# Altium footprint library SOT.PcbLib: 163 footprints (part 2 of 11)
Each footprint in its own frame and in the unit in brackets; x right, y up, seen from the top. Pads: shape width x height; smd on the part's side, far side on the other; paste and mask are expansions set on the pad; w line width, h text height; cw(c..) or ccw(c..) is an arc to the next point about the centre after c.
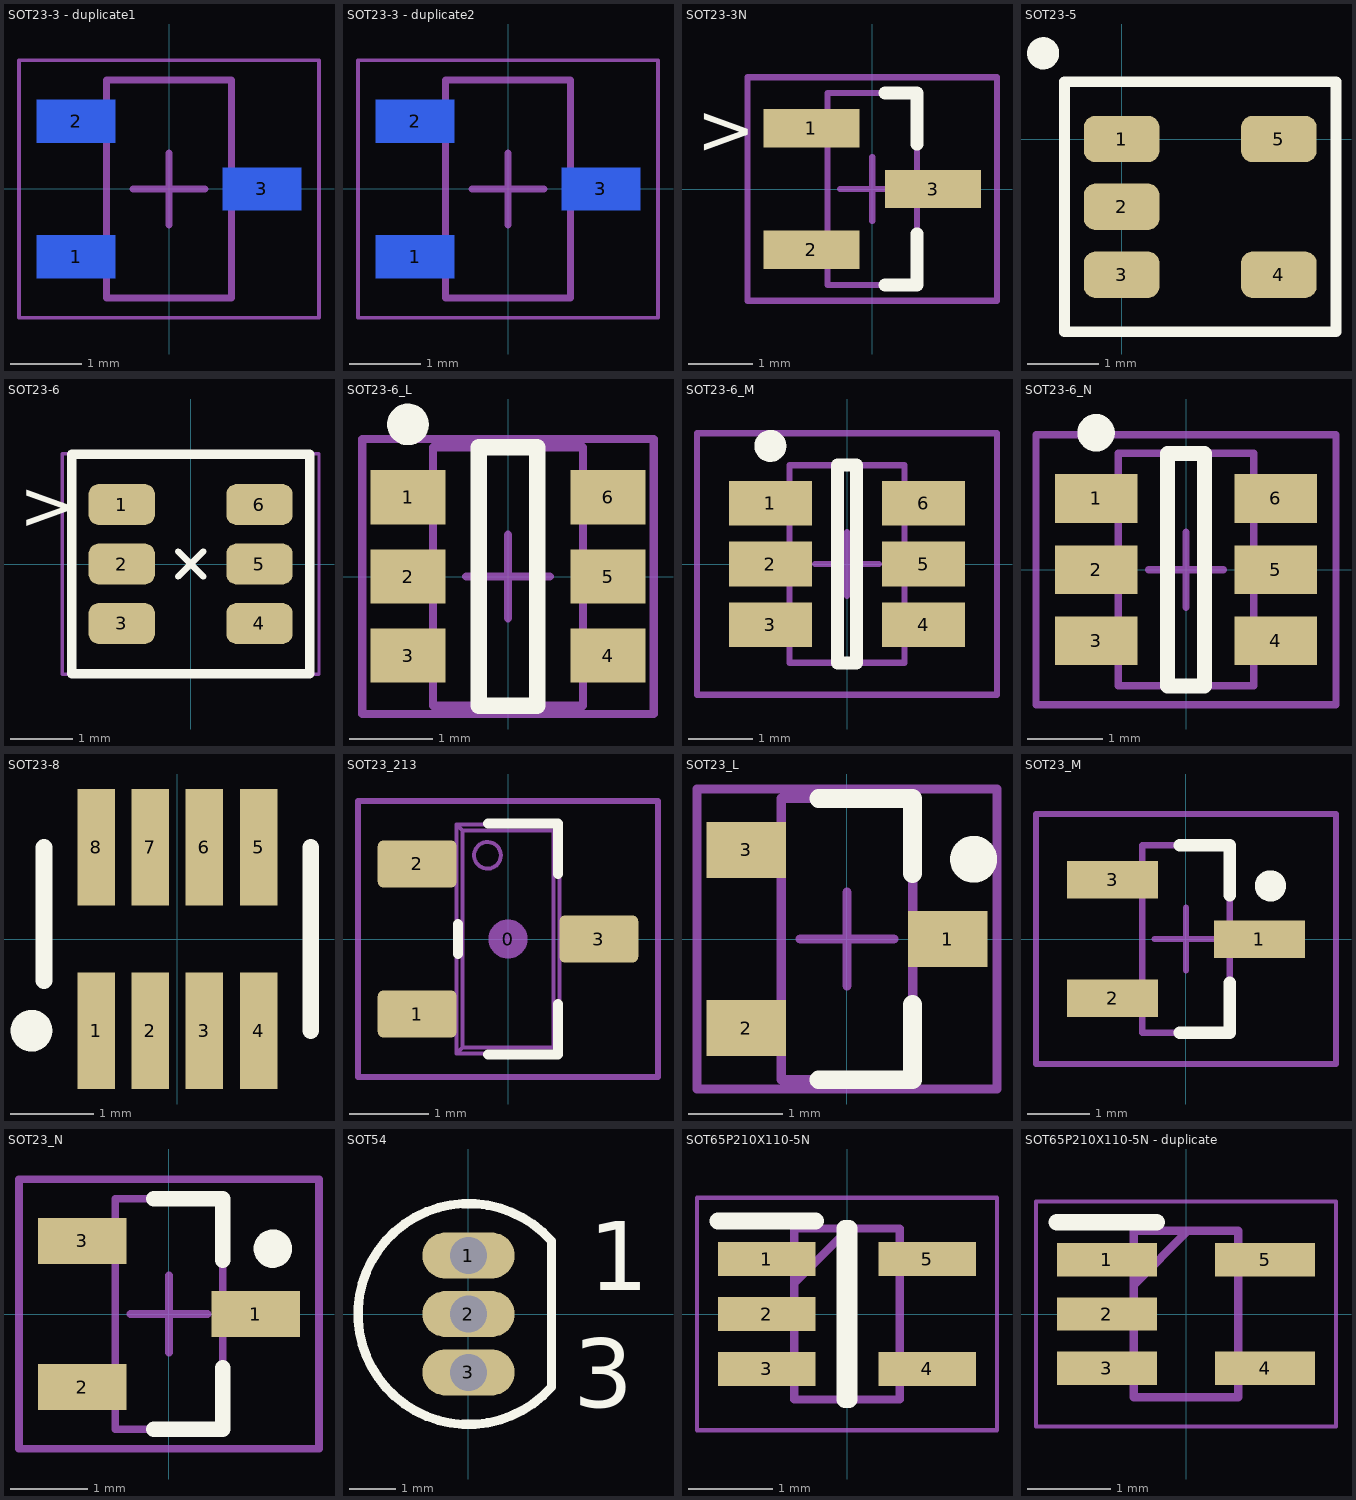
[diagram p1: the footprints below, top view; thin cyan lines are the x and y axes]

## SOT23-3 - duplicate1 [mm] "SOT95P280X145-3N"
height 1.45
pads (3):
  rect 1.1x0.6 smd far side: 1(-1.3,-0.95) 2(-1.3,0.95) 3(1.3,0)
Bottom Overlay:
  lines w0.2: -0.5,-1.55 -0.5,1.55 0.5,1.55 0.5,-1.55 -0.5,-1.55
  text ">" at -2.6,-0.55 h0.8
Mechanical 14:
  lines w0.1: -0.875,-1.525 0.875,-1.525 0.875,1.525 -0.875,1.525 -0.875,-1.525
Mechanical 16:
  lines w0.05: -2.1,-1.8 2.1,-1.8 2.1,1.8 -2.1,1.8 -2.1,-1.8
  lines w0.1: -0.5,0 0.5,0 ; 0,-0.5 0,0.5
3D body "SOT23-3.step": height 1.45, standoff 0, extent -1.5,-1.525 1.5,1.525

## SOT23-3 - duplicate2 [mm] "SOT95P280X145-3N"
height 1.45
pads (3):
  rect 1.1x0.6 smd far side: 1(-1.3,-0.95) 2(-1.3,0.95) 3(1.3,0)
Bottom Overlay:
  lines w0.2: -0.5,-1.55 -0.5,1.55 0.5,1.55 0.5,-1.55 -0.5,-1.55
  text ">" at -2.6,-0.55 h0.8
Mechanical 14:
  lines w0.1: -0.875,-1.525 0.875,-1.525 0.875,1.525 -0.875,1.525 -0.875,-1.525
Mechanical 16:
  lines w0.05: -2.1,-1.8 2.1,-1.8 2.1,1.8 -2.1,1.8 -2.1,-1.8
  lines w0.1: -0.5,0 0.5,0 ; 0,-0.5 0,0.5
3D body "SOT23-3.step": height 1.45, standoff 0, extent -1.5,-1.525 1.5,1.525

## SOT23-3N [mm] "SOT23, 3-Leads, Body 2.9x1.3mm, Pitch 0.95mm, Lead Span 2.5mm, IPC Medium Density"
height 1.1
pads (3):
  rect 1.5x0.6 smd: 1(-0.95,0.95) 2(-0.95,-0.95) 3(0.95,0)
Top Overlay:
  lines w0.2: 0.2,-1.5 0.7,-1.5 0.7,-0.7 ; 0.2,1.5 0.7,1.5 0.7,0.7
  text ">" at -2.74,0.55 h0.8
Mechanical 13:
  lines w0.1: -0.7,-1.5 0.7,-1.5 0.7,1.5 -0.7,1.5 -0.7,-1.5
Mechanical 15:
  lines w0.1: -0.5,0 0.5,0 ; 0,-0.5 0,0.5 ; -1.95,-1.75 1.95,-1.75 1.95,1.75 -1.95,1.75 -1.95,-1.75
3D body "SW3dPS-SOT23.STEP": height 1, standoff -0.1, extent -1.569,-1.5 1.569,1.5

## SOT23-5 [mm]
height 3
pads (5):
  rrect50% 1.06x0.65 smd: 1(0,0) 2(0,-0.95) 3(0,-1.9) 4(2.2,-1.9) 5(2.2,0)
Top Overlay:
  circle w0.25: c-1.1,1.2 r0.1
  lines w0.15: -0.8,-2.7 -0.8,0.8 3,0.8 3,-2.7 -0.8,-2.7
3D body "sot235.step": height 1, standoff 0, extent -0.07,-2.41 2.27,0.51

## SOT23-6 [mm]
height 3
pads (6):
  rrect50% 1.06x0.65 smd: 1(-1.1,0.95) 2(-1.1,0) 3(-1.1,-0.95) 4(1.1,-0.95) 5(1.1,0) 6(1.1,0.95)
Top Overlay:
  lines w0.1: -0.2,-0.2 0.2,0.2 ; -0.2,0.2 0.2,-0.2
  lines w0.15: -1.9,-1.75 1.9,-1.75 1.9,1.75 -1.9,1.75 -1.9,-1.75
  text ">" at -2.74,0.55 h0.8
Mechanical 15:
  lines w0.05: -2.05,-1.76 2.05,-1.76 2.05,1.76 -2.05,1.76 -2.05,-1.76
3D body "TSOP-6.step": height 1, standoff 0, extent -1.35,-1.5 1.35,1.5

## SOT23-6_L [mm] "SOT23, 6-Leads, Body 2.9x1.6mm, Pitch 0.95mm, Lead Span 2.7mm, IPC High Density"
height 1.45
pads (6):
  rect 0.9x0.65 smd: 1(-1.2,0.95) 2(-1.2,0) 3(-1.2,-0.95) 4(1.2,-0.95) 5(1.2,0) 6(1.2,0.95)
Top Overlay:
  circle w0.25: c-1.2,1.825 r0.125
  lines w0.2: -0.35,-1.55 0.35,-1.55 0.35,1.55 -0.35,1.55 -0.35,-1.55
Mechanical 13:
  lines w0.1: -0.9,-1.55 -0.9,1.55 0.9,1.55 0.9,-1.55 -0.9,-1.55
Mechanical 15:
  lines w0.1: -0.5,0 0.5,0 ; 0,-0.5 0,0.5 ; -1.75,-1.65 -1.75,1.65 1.75,1.65 1.75,-1.65 -1.75,-1.65
3D body: height 1.45, standoff 0, extent -0.9,-1.55 0.9,1.55

## SOT23-6_M [mm] "SOT23, 6-Leads, Body 2.9x1.6mm, Pitch 0.95mm, Lead Span 2.7mm, IPC Low Density"
height 1.45
pads (6):
  rect 1.3x0.7 smd: 1(-1.2,0.95) 2(-1.2,0) 3(-1.2,-0.95) 4(1.2,-0.95) 5(1.2,0) 6(1.2,0.95)
Top Overlay:
  circle w0.25: c-1.2,1.85 r0.125
  lines w0.2: -0.15,-1.55 -0.15,1.55 0.15,1.55 0.15,-1.55 -0.15,-1.55
Mechanical 13:
  lines w0.1: -0.9,-1.55 0.9,-1.55 0.9,1.55 -0.9,1.55 -0.9,-1.55
Mechanical 15:
  lines w0.1: -0.5,0 0.5,0 ; 0,-0.5 0,0.5 ; -2.35,-2.05 2.35,-2.05 2.35,2.05 -2.35,2.05 -2.35,-2.05
3D body: height 1.45, standoff 0, extent -0.9,-1.55 0.9,1.55

## SOT23-6_N [mm] "SOT23, 6-Leads, Body 2.9x1.6mm, Pitch 0.95mm, Lead Span 2.7mm, IPC Medium Density"
height 1.45
pads (6):
  rect 1.1x0.65 smd: 1(-1.2,0.95) 2(-1.2,0) 3(-1.2,-0.95) 4(1.2,-0.95) 5(1.2,0) 6(1.2,0.95)
Top Overlay:
  circle w0.25: c-1.2,1.825 r0.125
  lines w0.2: -0.25,-1.55 0.25,-1.55 0.25,1.55 -0.25,1.55 -0.25,-1.55
Mechanical 13:
  lines w0.1: -0.9,-1.55 -0.9,1.55 0.9,1.55 0.9,-1.55 -0.9,-1.55
Mechanical 15:
  lines w0.1: -0.5,0 0.5,0 ; 0,-0.5 0,0.5 ; -2,-1.8 -2,1.8 2,1.8 2,-1.8 -2,-1.8
3D body: height 1.45, standoff 0, extent -0.9,-1.55 0.9,1.55

## SOT23-8 [mm] "SSOP; 8 Leads; Body Width 1.6 mm; Pitch 0.65 mm"
height 1.45
pads (8):
  rect 0.45x1.4 smd: 1(-0.975,-1.1) 2(-0.325,-1.1) 3(0.325,-1.1) 4(0.975,-1.1) 5(0.975,1.1) 6(0.325,1.1) 7(-0.325,1.1) 8(-0.975,1.1)
Top Overlay:
  circle w0.25: c-1.75,-1.1 r0.125
  lines w0.2: -1.6,-0.5 -1.6,1.1 ; 1.6,-1.1 1.6,1.1

## SOT23_213 [mm]
height 1.003
pads (4):
  round 0.5 on Mech15: 0(0,0)
  rrect25% 1x0.6 smd: 1(-1.15,-0.95) 2(-1.15,0.95) 3(1.15,0)
Top Overlay:
  lines w0.127: -0.635,-0.191 -0.635,0.191 ; -0.254,-1.46 0.635,-1.46 0.635,-0.826 ; -0.254,1.46 0.635,1.46 0.635,0.826
Mechanical 13:
  circle w0.05: c-0.26,1.06 r0.169
  lines w0.05: -1.19,-1.19 -1.19,-0.71 ; -1.19,0.71 -1.19,1.19 ; -1.099,-1.19 -1.099,-0.71 ; -1.099,0.71 -1.099,1.19 ; -1.074,-1.19 -1.074,-0.71 ; -1.074,0.71 -1.074,1.19 ; -0.825,-1.19 -0.825,-0.71 ; -0.825,0.71 -0.825,1.19 ; -0.65,-1.19 -1.4,-1.19 -1.4,-0.71 -0.65,-0.71 ; -0.65,0.71 -1.4,0.71 -1.4,1.19 -0.65,1.19 ; 0.65,-0.24 1.4,-0.24 1.4,0.24 0.65,0.24 ; 0.825,-0.24 0.825,0.24 ; 1.074,-0.24 1.074,0.24 ; 1.099,-0.24 1.099,0.24 ; 1.19,-0.24 1.19,0.24 ; -0.65,-1.45 -0.576,-1.376 ; -0.65,-1.45 -0.65,1.45 ; -0.65,-1.45 0.65,-1.45 ; -0.65,1.45 0.65,1.45 ; -0.65,1.45 -0.576,1.376 ; -0.576,-1.376 -0.576,1.376 ; -0.576,-1.376 0.576,-1.376 ; -0.576,1.376 0.576,1.376 ; 0.576,-1.376 0.576,1.376 ; 0.576,-1.376 0.65,-1.45 ; 0.576,1.376 0.65,1.45 ; 0.65,-1.45 0.65,1.45
Mechanical 15:
  lines w0.076: -1.9,-1.75 -1.9,1.75 1.9,1.75 1.9,-1.75 -1.9,-1.75
3D body "SOT23-3.STEP": height 1.29, standoff -0.01, extent -1.4,-1.45 1.4,1.45

## SOT23_L [mm] "SOT23, 3-Leads, Body 2.9x1.3mm, Pitch 0.95mm, Lead Span 2.3mm - Reverse Pinning, IPC High Density"
height 1.1
pads (3):
  rect 0.85x0.6 smd: 1(1.075,0) 2(-1.075,-0.95) 3(-1.075,0.95)
Top Overlay:
  circle w0.25: c1.35,0.85 r0.125
  lines w0.2: -0.3,-1.5 0.7,-1.5 0.7,-0.7 ; -0.3,1.5 0.7,1.5 0.7,0.7
Mechanical 13:
  lines w0.1: -0.7,-1.5 0.7,-1.5 0.7,1.5 -0.7,1.5 -0.7,-1.5
Mechanical 15:
  lines w0.1: -0.5,0 0.5,0 ; 0,-0.5 0,0.5 ; -1.6,-1.6 1.6,-1.6 1.6,1.6 -1.6,1.6 -1.6,-1.6
3D body: height 1.1, standoff 0, extent -0.7,-1.5 0.7,1.5

## SOT23_M [mm] "SOT23, 3-Leads, Body 2.9x1.3mm, Pitch 0.95mm, Lead Span 2.3mm - Reverse Pinning, IPC Low Density"
height 1.1
pads (3):
  rect 1.45x0.6 smd: 1(1.175,0) 2(-1.175,-0.95) 3(-1.175,0.95)
Top Overlay:
  circle w0.25: c1.35,0.85 r0.125
  lines w0.2: -0.1,-1.5 0.7,-1.5 0.7,-0.7 ; -0.1,1.5 0.7,1.5 0.7,0.7
Mechanical 13:
  lines w0.1: -0.7,-1.5 0.7,-1.5 0.7,1.5 -0.7,1.5 -0.7,-1.5
Mechanical 15:
  lines w0.1: -0.5,0 0.5,0 ; 0,-0.5 0,0.5 ; -2.4,-2 2.4,-2 2.4,2 -2.4,2 -2.4,-2
3D body: height 1.1, standoff 0, extent -0.7,-1.5 0.7,1.5

## SOT23_N [mm] "SOT23, 3-Leads, Body 2.9x1.3mm, Pitch 0.95mm, Lead Span 2.3mm - Reverse Pinning, IPC Medium Density"
height 1.1
pads (3):
  rect 1.15x0.6 smd: 1(1.125,0) 2(-1.125,-0.95) 3(-1.125,0.95)
Top Overlay:
  circle w0.25: c1.35,0.85 r0.125
  lines w0.2: -0.2,-1.5 0.7,-1.5 0.7,-0.7 ; -0.2,1.5 0.7,1.5 0.7,0.7
Mechanical 13:
  lines w0.1: -0.7,-1.5 0.7,-1.5 0.7,1.5 -0.7,1.5 -0.7,-1.5
Mechanical 15:
  lines w0.1: -0.5,0 0.5,0 ; 0,-0.5 0,0.5 ; -1.95,-1.75 1.95,-1.75 1.95,1.75 -1.95,1.75 -1.95,-1.75
3D body: height 1.1, standoff 0, extent -0.7,-1.5 0.7,1.5

## SOT54 [mm] "TO, Flat Index; 3 In-Line, Axial Leads; Body Dia. 4.6mm; Leads 0.48 x 0.45 mm (max)"
height 5.2
pads (3):
  oval 2x1 hole 0.8: 1(0,1.27) 2(0,0) 3(0,-1.27)
Top Overlay:
  lines w0.2: 1.8,-1.587 1.8,1.587 ; 1.8,-1.587 cw(c0,0) 1.8,1.587
  text "3" at 2.275,-2.02 h1.5
  text "1" at 2.616,0.52 h1.5

## SOT65P210X110-5N [mm]
pads (5):
  rect 1.15x0.4 smd: 1(-0.95,0.65) 2(-0.95,0) 3(-0.95,-0.65) 4(0.95,-0.65) 5(0.95,0.65)
Top Overlay:
  lines w0.2: -1.525,1.1 -0.375,1.1 ; -0.025,-1.012 0.025,-1.012 0.025,1.012 -0.025,1.012 -0.025,-1.012
Mechanical 13:
  lines w0.1: -0.625,0.362 0.025,1.012 ; -0.625,-1.012 0.625,-1.012 0.625,1.012 -0.625,1.012 -0.625,-1.012
Mechanical 15:
  lines w0.05: -1.775,-1.375 1.775,-1.375 1.775,1.375 -1.775,1.375 -1.775,-1.375
3D body "MIC5365-1.8YC5-TR.stp": height 1.1, standoff 0, extent -1.05,-1.012 1.05,1.012

## SOT65P210X110-5N - duplicate [mm]
pads (5):
  rect 1.2x0.4 smd: 1(-0.95,0.65) 2(-0.95,0) 3(-0.95,-0.65) 4(0.95,-0.65) 5(0.95,0.65)
Top Overlay:
  lines w0.2: -1.55,1.1 -0.35,1.1
Mechanical 13:
  lines w0.1: -0.625,0.35 0.025,1 ; -0.625,-1 -0.625,1 0.625,1 0.625,-1 -0.625,-1
Mechanical 15:
  lines w0.05: -1.8,-1.35 -1.8,1.35 1.8,1.35 1.8,-1.35 -1.8,-1.35
3D body "ESDALC6V1W5.stp": height 1.1, standoff 0, extent -1.05,-1 1.05,1